# EAGLE library part EDGE-LIBRARY_PCIE_CONNECTOR_36POS (library Local Compute Module)
Conn PCI Express Card Edge SKT 36 POS 2mm Solder ST Thru-Hole Tray
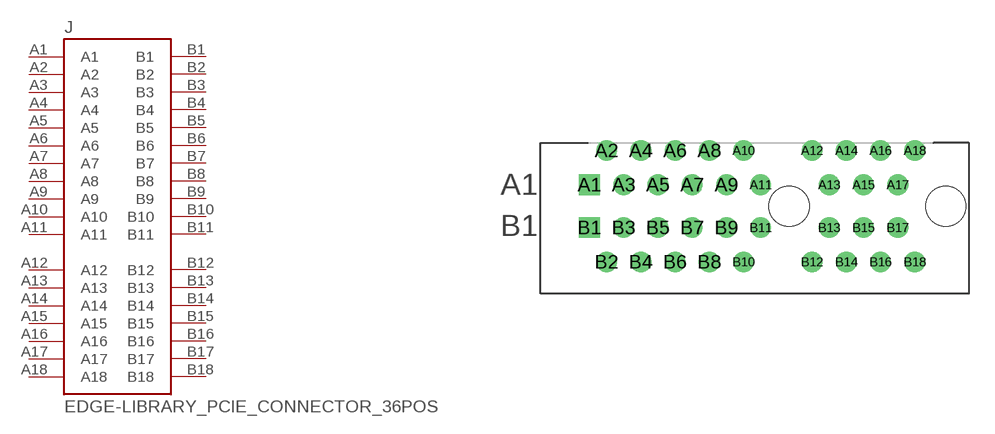
[diagram p3: symbol with the pads of EDGE-LIBRARY_AMPHENOL_10018784-10210TLF; footprint EDGE-LIBRARY_AMPHENOL_10018784-10210TLF]

Designator prefix J

## EDGE-LIBRARY_PCIE_CONNECTOR_36POS (DIGIKEY: 609-2029-ND; MANUFACTURE: Amphenol ICC; MPN: 10018784-10210TLF)  [EDGE-LIBRARY_AMPHENOL_10018784-10210TLF]
A1  A1  pas
A2  A2  pas
A3  A3  pas
A4  A4  pas
A5  A5  pas
A6  A6  pas
A7  A7  pas
A8  A8  pas
A9  A9  pas
A10  A10  pas
A11  A11  pas
A12  A12  pas
A13  A13  pas
A14  A14  pas
A15  A15  pas
A16  A16  pas
A17  A17  pas
A18  A18  pas
B1  B1  pas
B2  B2  pas
B3  B3  pas
B4  B4  pas
B5  B5  pas
B6  B6  pas
B7  B7  pas
B8  B8  pas
B9  B9  pas
B10  B10  pas
B11  B11  pas
B12  B12  pas
B13  B13  pas
B14  B14  pas
B15  B15  pas
B16  B16  pas
B17  B17  pas
B18  B18  pas

## Footprint EDGE-LIBRARY_AMPHENOL_10018784-10210TLF (pad centres in mm)
PCI EXPRESS CARD CONNECTOR ,64 PINS.
drill 0.7 square: A1 -11.65,1.25; B1 -11.65,-1.25
drill 0.7: A2 -10.65,3.25; A3 -9.65,1.25; A4 -8.65,3.25; A5 -7.65,1.25; A6 -6.65,3.25; A7 -5.65,1.25; A8 -4.65,3.25; A9 -3.65,1.25; A10 -2.65,3.25; A11 -1.65,1.25; A12 1.35,3.25; A13 2.35,1.25; A14 3.35,3.25; A15 4.35,1.25; A16 5.35,3.25; A17 6.35,1.25; A18 7.35,3.25; B2 -10.65,-3.25; B3 -9.65,-1.25; B4 -8.65,-3.25; B5 -7.65,-1.25; B6 -6.65,-3.25; B7 -5.65,-1.25; B8 -4.65,-3.25; B9 -3.65,-1.25; B10 -2.65,-3.25; B11 -1.65,-1.25; B12 1.35,-3.25; B13 2.35,-1.25; B14 3.35,-3.25; B15 4.35,-1.25; B16 5.35,-3.25; B17 6.35,-1.25; B18 7.35,-3.25
hole 2.35 at 0,0
hole 2.35 at 9.15,0